# Altium schematic symbol library 2021-06-09_16-35-20.SchLib: 2 symbols
Pins are listed as number, name and electrical type; pins without a type are passive.

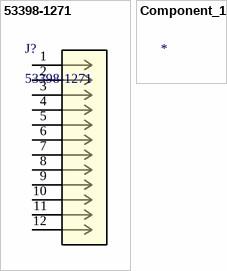
[diagram p0: symbols 53398-1271 to Component_1]

## 53398-1271
designator J?
No Description Available; Vendor: Molex Connector Corporation; Built_By: EMA_Cory; SourceLibrary: Molex_2020-08-28; Datasheet: https://www.molex.com/pdm_docs/sd/533981271_sd.pdf; Manufacturer_Part_Number: 53398-1271; Copyright: Copyright (C) 2018 Accelerated Designs. All rights reserved; RefDes: RefDes; Type: DEV
footprint CONN_53398-1271_MOL
pins: 1, 2, 3, 4, 5, 6, 7, 8, 9, 10, 11, 12

## Component_1
designator *  (value not drawn)